# Altium footprint library inductor-neosid.PCBLIB: 99 footprints (part 1 of 7)
Each footprint in its own frame and in the unit in brackets; x right, y up, seen from the top. Pads: shape width x height; smd on the part's side, far side on the other; paste and mask are expansions set on the pad; w line width, h text height; cw(c..) or ccw(c..) is an arc to the next point about the centre after c.
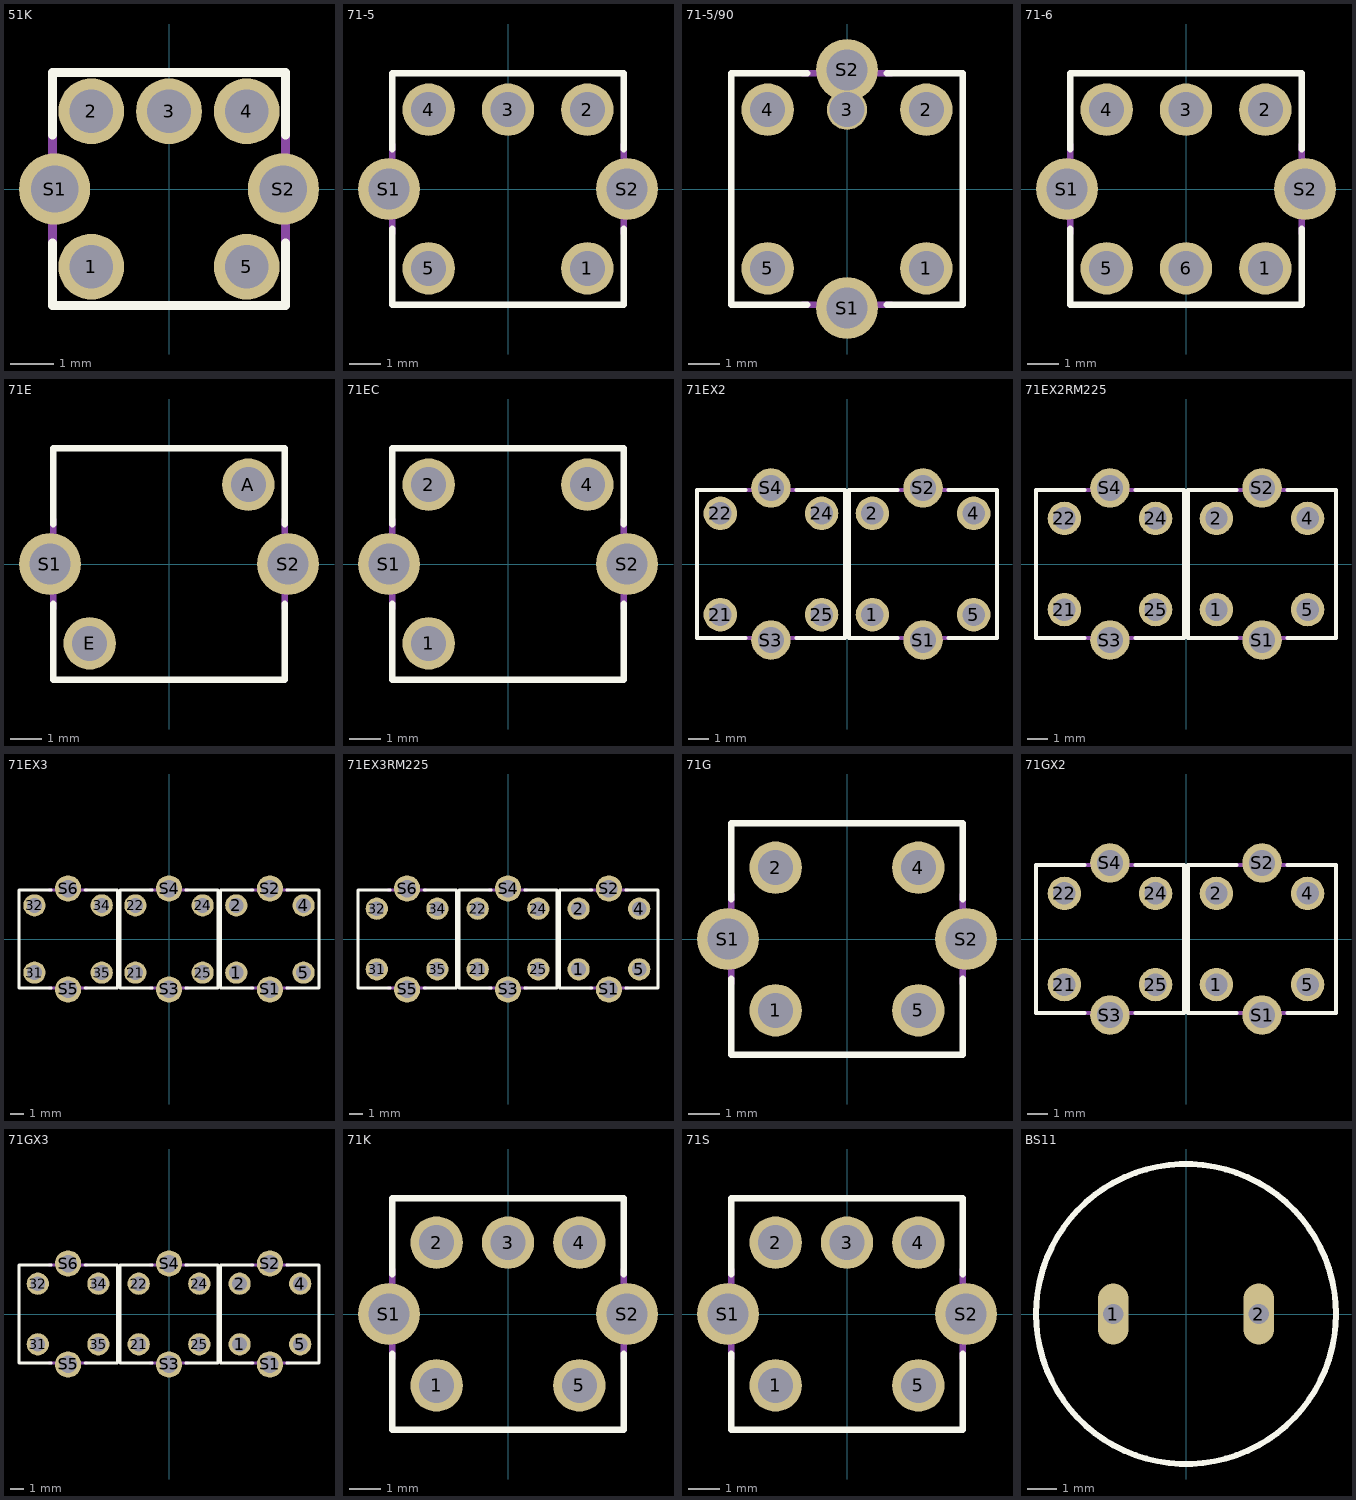
[diagram p0: the footprints below, top view; thin cyan lines are the x and y axes]

## 51K [mil]
pads (7):
  round 60 hole 40: 1(-70.87,-70.87) 2(-70.87,70.87) 3(0,70.87) 4(70.87,70.87) 5(70.87,-70.87)
  round 64.97 hole 43.31: S1(-104.33,0) S2(104.33,0)
Top Overlay:
  lines w8: -106.3,-49.21 -106.3,-106.3 106.3,-106.3 106.3,-49.21 ; -106.3,49.21 -106.3,106.3 106.3,106.3 106.3,49.21
Mechanical 16:
  lines w8: -106.3,-55.12 -106.3,55.12 ; 106.3,-55.12 106.3,55.12

## 71-5 [mm]
pads (7):
  round 1.65 hole 1.1: 1(2.5,-2.5) 2(2.5,2.5) 3(0,2.5) 4(-2.5,2.5) 5(-2.5,-2.5)
  round 1.95 hole 1.3: S1(-3.75,0) S2(3.75,0)
Top Overlay:
  lines w0.203: -3.65,-1.25 -3.65,-3.65 3.65,-3.65 3.65,-1.25 ; -3.65,1.25 -3.65,3.65 3.65,3.65 3.65,1.25
Mechanical 16:
  lines w0.203: -3.65,-1.4 -3.65,1.4 ; 3.65,-1.4 3.65,1.4

## 71-5/90 [mm]
pads (7):
  round 1.65 hole 1.1: 1(2.5,-2.5) 2(2.5,2.5) 4(-2.5,2.5) 5(-2.5,-2.5)
  round 1.27 hole 1.1: 3(0,2.5)
  round 1.95 hole 1.3: S1(0,-3.75) S2(0,3.75)
Top Overlay:
  lines w0.203: -1.25,-3.65 -3.65,-3.65 -3.65,3.65 -1.25,3.65 ; 1.25,-3.65 3.65,-3.65 3.65,3.65 1.25,3.65
Mechanical 16:
  lines w0.203: -1.4,-3.65 1.4,-3.65 ; -1.4,3.65 1.4,3.65

## 71-6 [mm]
pads (8):
  round 1.65 hole 1.1: 1(2.5,-2.5) 2(2.5,2.5) 3(0,2.5) 4(-2.5,2.5) 5(-2.5,-2.5) 6(0,-2.5)
  round 1.95 hole 1.3: S1(-3.75,0) S2(3.75,0)
Top Overlay:
  lines w0.203: -3.65,-1.25 -3.65,-3.65 3.65,-3.65 3.65,-1.25 ; -3.65,1.25 -3.65,3.65 3.65,3.65 3.65,1.25
Mechanical 16:
  lines w0.203: -3.65,-1.4 -3.65,1.4 ; 3.65,-1.4 3.65,1.4

## 71E [mm]
pads (4):
  round 1.65 hole 1.1: A(2.5,2.5) E(-2.5,-2.5)
  round 1.95 hole 1.3: S1(-3.75,0) S2(3.75,0)
Top Overlay:
  lines w0.203: -3.65,-1.25 -3.65,-3.65 3.65,-3.65 3.65,-1.25 ; -3.65,1.25 -3.65,3.65 3.65,3.65 3.65,1.25
Mechanical 16:
  lines w0.203: -3.65,-1.4 -3.65,1.4 ; 3.65,-1.4 3.65,1.4

## 71EC [mm]
pads (5):
  round 1.65 hole 1.1: 1(-2.5,-2.5) 2(-2.5,2.5) 4(2.5,2.5)
  round 1.95 hole 1.3: S1(-3.75,0) S2(3.75,0)
Top Overlay:
  lines w0.203: -3.65,-1.25 -3.65,-3.65 3.65,-3.65 3.65,-1.25 ; -3.65,1.25 -3.65,3.65 3.65,3.65 3.65,1.25
Mechanical 16:
  lines w0.203: -3.65,-1.4 -3.65,1.4 ; 3.65,-1.4 3.65,1.4

## 71EX2 [mm]
pads (12):
  round 1.65 hole 1.1: 1(1.25,-2.5) 2(1.25,2.5) 4(6.25,2.5) 5(6.25,-2.5) 21(-6.25,-2.5) 22(-6.25,2.5) 24(-1.25,2.5) 25(-1.25,-2.5)
  round 1.95 hole 1.3: S1(3.75,-3.75) S2(3.75,3.75) S3(-3.75,-3.75) S4(-3.75,3.75)
Top Overlay:
  lines w0.203: -5,-3.65 -7.4,-3.65 -7.4,3.65 -5,3.65 ; -2.5,-3.65 -0.1,-3.65 -0.1,3.65 -2.5,3.65 ; 2.5,-3.65 0.1,-3.65 0.1,3.65 2.5,3.65 ; 5,-3.65 7.4,-3.65 7.4,3.65 5,3.65
Mechanical 16:
  lines w0.203: -5.15,-3.65 -2.35,-3.65 ; -5.15,3.65 -2.35,3.65 ; 2.35,-3.65 5.15,-3.65 ; 2.35,3.65 5.15,3.65

## 71EX2RM225 [mm]
pads (12):
  round 1.65 hole 1.1: 1(1.5,-2.25) 2(1.5,2.25) 4(6,2.25) 5(6,-2.25) 21(-6,-2.25) 22(-6,2.25) 24(-1.5,2.25) 25(-1.5,-2.25)
  round 1.95 hole 1.3: S1(3.75,-3.75) S2(3.75,3.75) S3(-3.75,-3.75) S4(-3.75,3.75)
Top Overlay:
  lines w0.203: -5,-3.65 -7.4,-3.65 -7.4,3.65 -5,3.65 ; -2.5,-3.65 -0.1,-3.65 -0.1,3.65 -2.5,3.65 ; 2.5,-3.65 0.1,-3.65 0.1,3.65 2.5,3.65 ; 5,-3.65 7.4,-3.65 7.4,3.65 5,3.65
Mechanical 16:
  lines w0.203: -5.15,-3.65 -2.35,-3.65 ; -5.15,3.65 -2.35,3.65 ; 2.35,-3.65 5.15,-3.65 ; 2.35,3.65 5.15,3.65

## 71EX3 [mm]
pads (18):
  round 1.65 hole 1.1: 1(5,-2.5) 2(5,2.5) 4(10,2.5) 5(10,-2.5) 21(-2.5,-2.5) 22(-2.5,2.5) 24(2.5,2.5) 25(2.5,-2.5) 31(-10,-2.5) 32(-10,2.5) 34(-5,2.5) 35(-5,-2.5)
  round 1.95 hole 1.3: S1(7.5,-3.75) S2(7.5,3.75) S3(0,-3.75) S4(0,3.75) S5(-7.5,-3.75) S6(-7.5,3.75)
Top Overlay:
  lines w0.203: -8.75,-3.65 -11.15,-3.65 -11.15,3.65 -8.75,3.65 ; -6.25,-3.65 -3.85,-3.65 -3.85,3.65 -6.25,3.65 ; -1.25,-3.65 -3.65,-3.65 -3.65,3.65 -1.25,3.65 ; 1.25,-3.65 3.65,-3.65 3.65,3.65 1.25,3.65 ; 6.25,-3.65 3.85,-3.65 3.85,3.65 6.25,3.65 ; 8.75,-3.65 11.15,-3.65 11.15,3.65 8.75,3.65
Mechanical 16:
  lines w0.203: -8.9,-3.65 -6.1,-3.65 ; -8.9,3.65 -6.1,3.65 ; -1.4,-3.65 1.4,-3.65 ; -1.4,3.65 1.4,3.65 ; 6.1,-3.65 8.9,-3.65 ; 6.1,3.65 8.9,3.65

## 71EX3RM225 [mm]
pads (18):
  round 1.65 hole 1.1: 1(5.25,-2.25) 2(5.25,2.25) 4(9.75,2.25) 5(9.75,-2.25) 21(-2.25,-2.25) 22(-2.25,2.25) 24(2.25,2.25) 25(2.25,-2.25) 31(-9.75,-2.25) 32(-9.75,2.25) 34(-5.25,2.25) 35(-5.25,-2.25)
  round 1.95 hole 1.3: S1(7.5,-3.75) S2(7.5,3.75) S3(0,-3.75) S4(0,3.75) S5(-7.5,-3.75) S6(-7.5,3.75)
Top Overlay:
  lines w0.203: -8.75,-3.65 -11.15,-3.65 -11.15,3.65 -8.75,3.65 ; -6.25,-3.65 -3.85,-3.65 -3.85,3.65 -6.25,3.65 ; -1.25,-3.65 -3.65,-3.65 -3.65,3.65 -1.25,3.65 ; 1.25,-3.65 3.65,-3.65 3.65,3.65 1.25,3.65 ; 6.25,-3.65 3.85,-3.65 3.85,3.65 6.25,3.65 ; 8.75,-3.65 11.15,-3.65 11.15,3.65 8.75,3.65
Mechanical 16:
  lines w0.203: -8.9,-3.65 -6.1,-3.65 ; -8.9,3.65 -6.1,3.65 ; -1.4,-3.65 1.4,-3.65 ; -1.4,3.65 1.4,3.65 ; 6.1,-3.65 8.9,-3.65 ; 6.1,3.65 8.9,3.65

## 71G [mm]
pads (6):
  round 1.65 hole 1.1: 1(-2.25,-2.25) 2(-2.25,2.25) 4(2.25,2.25) 5(2.25,-2.25)
  round 1.95 hole 1.3: S1(-3.75,0) S2(3.75,0)
Top Overlay:
  lines w0.203: -3.65,-1.25 -3.65,-3.65 3.65,-3.65 3.65,-1.25 ; -3.65,1.25 -3.65,3.65 3.65,3.65 3.65,1.25
Mechanical 16:
  lines w0.203: -3.65,-1.4 -3.65,1.4 ; 3.65,-1.4 3.65,1.4

## 71GX2 [mm]
pads (12):
  round 1.65 hole 1.1: 1(1.5,-2.25) 2(1.5,2.25) 4(6,2.25) 5(6,-2.25) 21(-6,-2.25) 22(-6,2.25) 24(-1.5,2.25) 25(-1.5,-2.25)
  round 1.95 hole 1.3: S1(3.75,-3.75) S2(3.75,3.75) S3(-3.75,-3.75) S4(-3.75,3.75)
Top Overlay:
  lines w0.203: -5,-3.65 -7.4,-3.65 -7.4,3.65 -5,3.65 ; -2.5,-3.65 -0.1,-3.65 -0.1,3.65 -2.5,3.65 ; 2.5,-3.65 0.1,-3.65 0.1,3.65 2.5,3.65 ; 5,-3.65 7.4,-3.65 7.4,3.65 5,3.65
Mechanical 16:
  lines w0.203: -5.15,-3.65 -2.35,-3.65 ; -5.15,3.65 -2.35,3.65 ; 2.35,-3.65 5.15,-3.65 ; 2.35,3.65 5.15,3.65

## 71GX3 [mm]
pads (18):
  round 1.65 hole 1.1: 1(5.25,-2.25) 2(5.25,2.25) 4(9.75,2.25) 5(9.75,-2.25) 21(-2.25,-2.25) 22(-2.25,2.25) 24(2.25,2.25) 25(2.25,-2.25) 31(-9.75,-2.25) 32(-9.75,2.25) 34(-5.25,2.25) 35(-5.25,-2.25)
  round 1.95 hole 1.3: S1(7.5,-3.75) S2(7.5,3.75) S3(0,-3.75) S4(0,3.75) S5(-7.5,-3.75) S6(-7.5,3.75)
Top Overlay:
  lines w0.203: -8.75,-3.65 -11.15,-3.65 -11.15,3.65 -8.75,3.65 ; -6.25,-3.65 -3.85,-3.65 -3.85,3.65 -6.25,3.65 ; -1.25,-3.65 -3.65,-3.65 -3.65,3.65 -1.25,3.65 ; 1.25,-3.65 3.65,-3.65 3.65,3.65 1.25,3.65 ; 6.25,-3.65 3.85,-3.65 3.85,3.65 6.25,3.65 ; 8.75,-3.65 11.15,-3.65 11.15,3.65 8.75,3.65
Mechanical 16:
  lines w0.203: -8.9,-3.65 -6.1,-3.65 ; -8.9,3.65 -6.1,3.65 ; -1.4,-3.65 1.4,-3.65 ; -1.4,3.65 1.4,3.65 ; 6.1,-3.65 8.9,-3.65 ; 6.1,3.65 8.9,3.65

## 71K [mm]
pads (7):
  round 1.65 hole 1.1: 1(-2.25,-2.25) 2(-2.25,2.25) 3(0,2.25) 4(2.25,2.25) 5(2.25,-2.25)
  round 1.95 hole 1.3: S1(-3.75,0) S2(3.75,0)
Top Overlay:
  lines w0.203: -3.65,-1.25 -3.65,-3.65 3.65,-3.65 3.65,-1.25 ; -3.65,1.25 -3.65,3.65 3.65,3.65 3.65,1.25
Mechanical 16:
  lines w0.203: -3.65,-1.4 -3.65,1.4 ; 3.65,-1.4 3.65,1.4

## 71S [mm]
pads (7):
  round 1.65 hole 1.1: 1(-2.25,-2.25) 2(-2.25,2.25) 3(0,2.25) 4(2.25,2.25) 5(2.25,-2.25)
  round 1.95 hole 1.3: S1(-3.75,0) S2(3.75,0)
Top Overlay:
  lines w0.203: -3.65,-1.25 -3.65,-3.65 3.65,-3.65 3.65,-1.25 ; -3.65,1.25 -3.65,3.65 3.65,3.65 3.65,1.25
Mechanical 16:
  lines w0.203: -3.65,-1.4 -3.65,1.4 ; 3.65,-1.4 3.65,1.4

## BS11 [mm]
pads (2):
  oval 1.05x2.1 hole 0.7: 1(-2.5,0) 2(2.5,0)
Top Overlay:
  circle w0.203: c0,0 r5.15